# EAGLE library part ATMEGA328_SMT (library Master)
32-Pin Atmega328 part Commonly used on Arduino compatible boards Available in QFP and QFN packages TQFP is IC-09069 QFN is non-stock
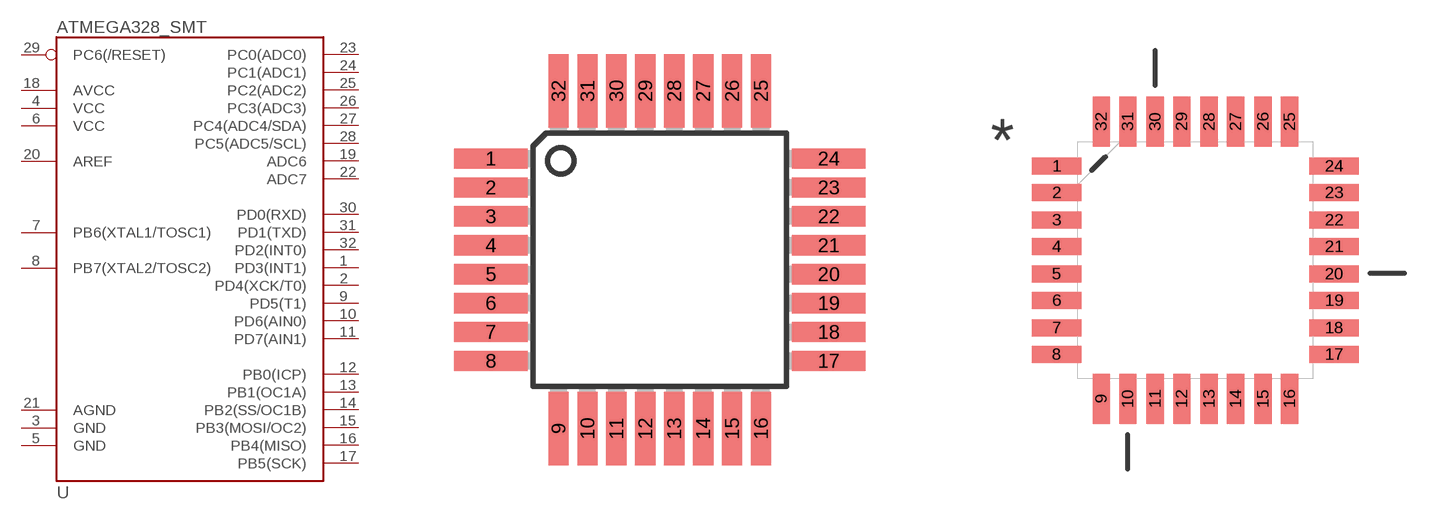
[diagram p13: symbol with the pads of TQFP32-08; footprints TQFP32-08, QFP80P900X900X120-32N]

Designator prefix U

## ATMEGA328_SMTTQFP-08-LONG  [TQFP32-08]
1  PD3(INT1)
2  PD4(XCK/T0)
3  GND
4  VCC
5  GND
6  VCC
7  PB6(XTAL1/TOSC1)
8  PB7(XTAL2/TOSC2)
9  PD5(T1)
10  PD6(AIN0)
11  PD7(AIN1)
12  PB0(ICP)
13  PB1(OC1A)
14  PB2(SS/OC1B)
15  PB3(MOSI/OC2)
16  PB4(MISO)
17  PB5(SCK)
18  AVCC
19  ADC6
20  AREF
21  AGND
22  ADC7
23  PC0(ADC0)
24  PC1(ADC1)
25  PC2(ADC2)
26  PC3(ADC3)
27  PC4(ADC4/SDA)
28  PC5(ADC5/SCL)
29  PC6(/RESET)
30  PD0(RXD)
31  PD1(TXD)
32  PD2(INT0)

## ATMEGA328_SMTTQFP32-08-SHORT  [QFP80P900X900X120-32N]
Pads as for TQFP32-08

## Footprint TQFP32-08 (pad centres in mm)
Thin Plasic Quad Flat Package Grid 0.8 mm
smd 2.032 x 0.559: 1 -4.674,2.8; 2 -4.674,2; 3 -4.674,1.2; 4 -4.674,0.4; 5 -4.674,-0.4; 6 -4.674,-1.2; 7 -4.674,-2; 8 -4.674,-2.8; 17 4.674,-2.8; 18 4.674,-2; 19 4.674,-1.2; 20 4.674,-0.4; 21 4.674,0.4; 22 4.674,1.2; 23 4.674,2; 24 4.674,2.8
smd 0.559 x 2.032: 9 -2.8,-4.674; 10 -2,-4.674; 11 -1.2,-4.674; 12 -0.4,-4.674; 13 0.4,-4.674; 14 1.2,-4.674; 15 2,-4.674; 16 2.8,-4.674; 25 2.8,4.674; 26 2,4.674; 27 1.2,4.674; 28 0.4,4.674; 29 -0.4,4.674; 30 -1.2,4.674; 31 -2,4.674; 32 -2.8,4.674

## Footprint QFP80P900X900X120-32N (pad centres in mm)
smd 1.473 x 0.508: 1 -4.115,2.794; 2 -4.115,2.007; 3 -4.115,1.194; 4 -4.115,0.406; 5 -4.115,-0.406; 6 -4.115,-1.194; 7 -4.115,-2.007; 8 -4.115,-2.794; 17 4.115,-2.794; 18 4.115,-2.007; 19 4.115,-1.194; 20 4.115,-0.406; 21 4.115,0.406; 22 4.115,1.194; 23 4.115,2.007; 24 4.115,2.794
smd 0.508 x 1.473: 9 -2.794,-4.115; 10 -2.007,-4.115; 11 -1.194,-4.115; 12 -0.406,-4.115; 13 0.406,-4.115; 14 1.194,-4.115; 15 2.007,-4.115; 16 2.794,-4.115; 25 2.794,4.115; 26 2.007,4.115; 27 1.194,4.115; 28 0.406,4.115; 29 -0.406,4.115; 30 -1.194,4.115; 31 -2.007,4.115; 32 -2.794,4.115